# Altium integrated library TI Power Management PCMCIA and USB.IntLib: 328 symbols (part 8 of 14)
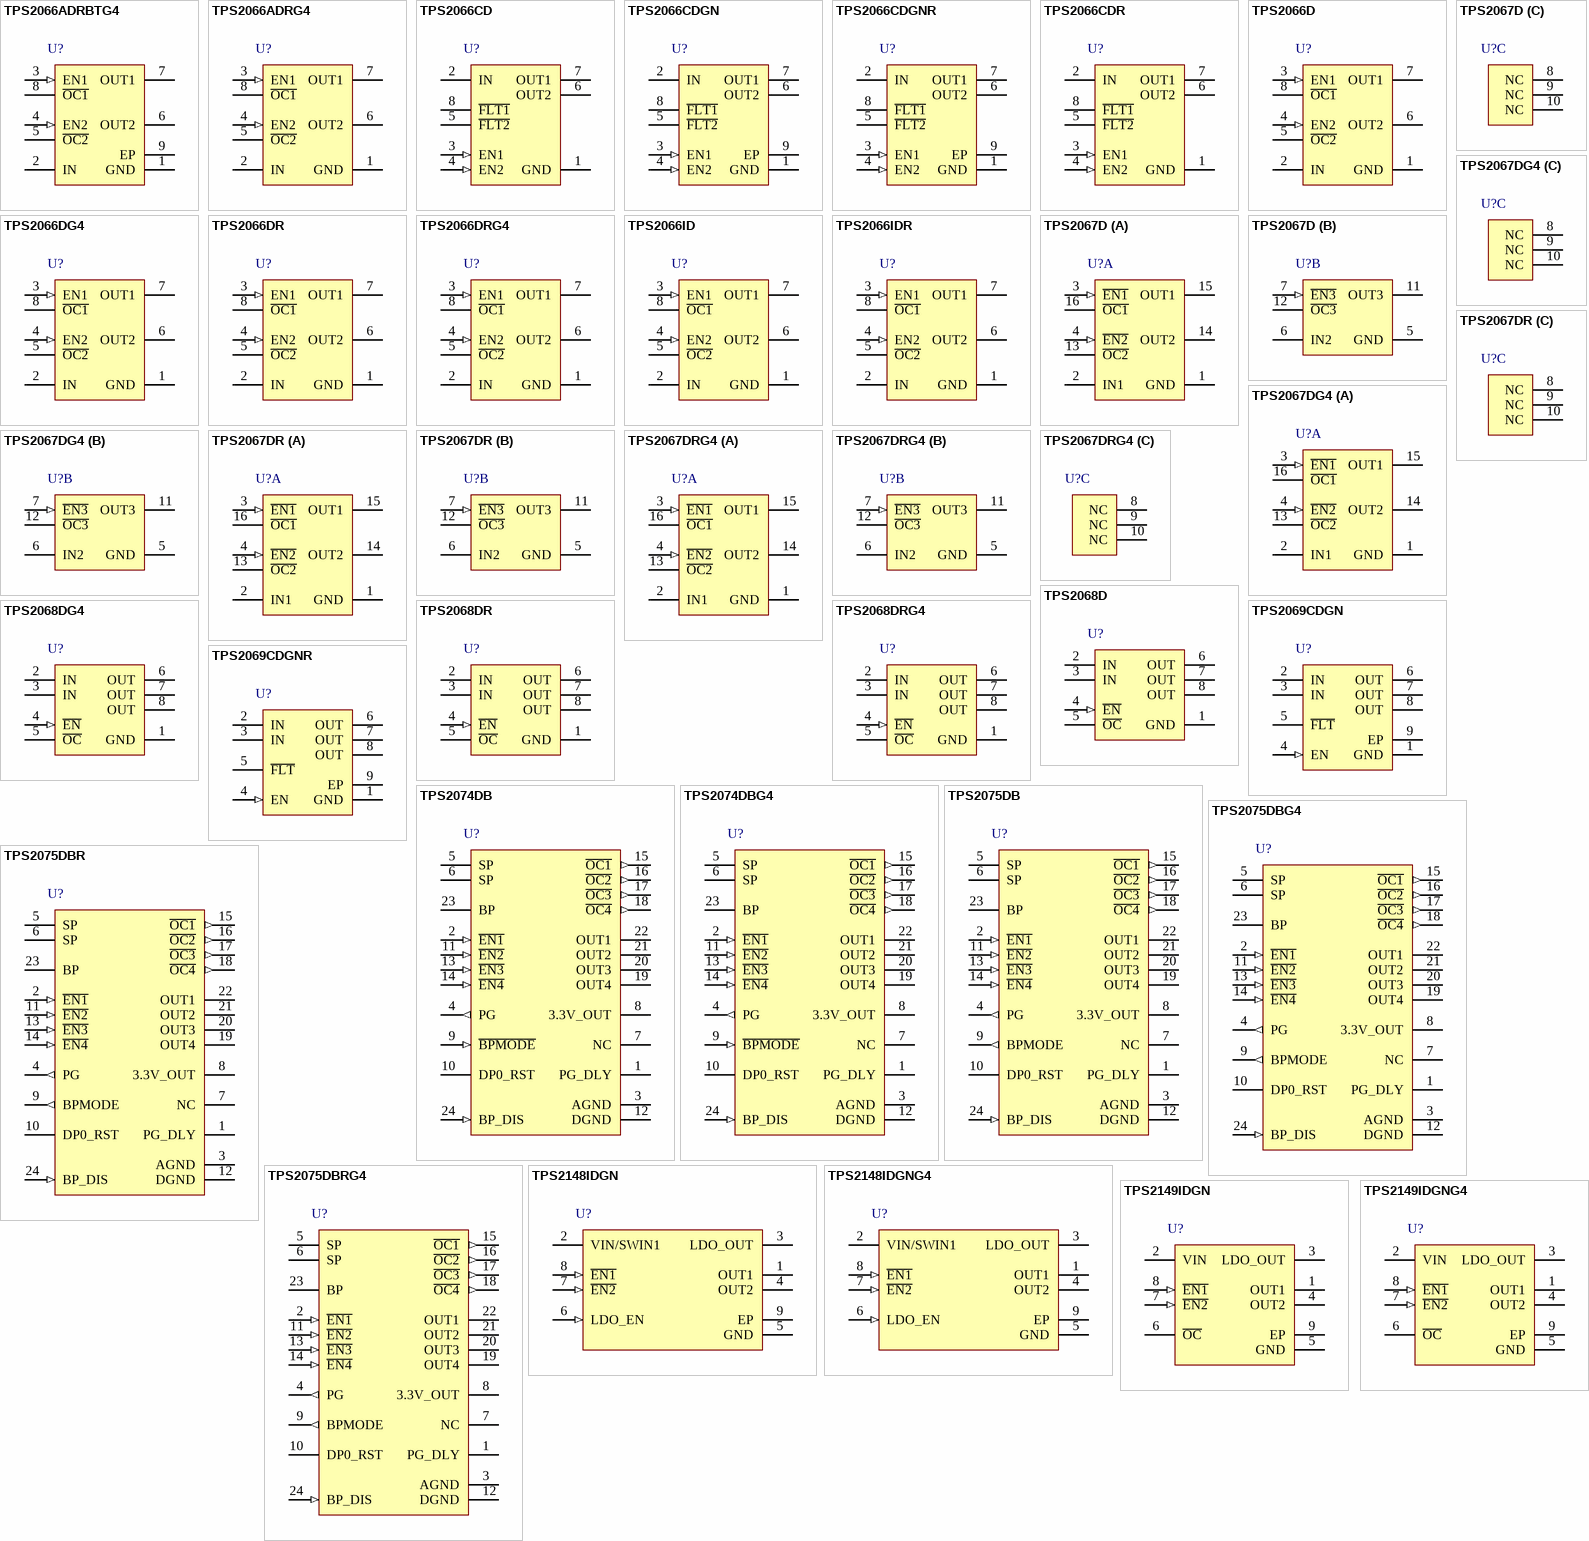
[diagram p17: symbols TPS2066ADRBTG4 to TPS2149IDGNG4]

## TPS2066CDR
designator U?
Dual-Channel, Current-Limited, Power-Distribution Switch, 1.11 to 1.85 A Current Limit, -40 to 85 degC, 8-pin SOIC (D), Green (RoHS & no Sb/Br); Manufacturer: Texas Instruments; PartNumber: TPS2066CDR; Continuous Current(Max)(A): 1; Current Limit Accuracy @ 1A: +/- 25%; Current Limit Topology: Constant-Current; Enable: Active High; Number of Switches: 2; Rating: Catalog; rDS(on) per FET(Typ)(mOhms): 70; Vin(Max)(V): 5.5; Vin(Min)(V): 4.5; DatasheetVersion: SLVSAX6E; PackageVersion: revM, Jun-2011; PackageReference: D8; PackageDescription: 8-Pin Plastic Small Outline Integrated Circuit, 4.9 x 3.9 mm, Pitch 1.27 mm Pitch; Supplier 1: Digi-Key; Supplier Part Number 1: TPS2066CDR-ND; Supplier 2: Newark; Supplier Part Number 2: 27W9720; Supplier 3: Mouser; Supplier Part Number 3: 595-TPS2066CDR; Current Limit(A): 1.11 to 1.85; Eco-Plan: Green (RoHS & no Sb/Br); Mounting Technology: Surface Mount; Code_JEDEC: MS-012AA; ComponentLink1Description: Datasheet; ComponentLink1URL: http://www.ti.com/general/docs/lit/getliterature.tsp?genericPartNumber=TPS2066C&fileType=pdf
footprint D8_N (SOIC, 8-Leads, Body 4.9x3.9mm, Pitch 1.27mm, IPC Medium Density)
footprint D8_L (SOIC, 8-Leads, Body 4.9x3.9mm, Pitch 1.27mm, IPC High Density)
footprint D8_M (SOIC, 8-Leads, Body 4.9x3.9mm, Pitch 1.27mm, IPC Low Density)
pins: 1 GND (power) "Ground connection", 2 IN (power) "Input voltage and power-switch drain; connect a 0.1 uF or greater ceramic capacitor from IN to GND close to the IC", 3 EN1 (in) "Enable input channel 1, logic high turns on power switch", 4 EN2 (in) "Enable input channel 2, logic high turns on power switch", 5 ~{FLT2} (hiz) "Active-low open-drain output, asserted during overcurrent, or overtemperature conditions on channel 2", 6 OUT2 (power) "Power-switch output channel 2, connected to load", 7 OUT1 (power) "Power-switch output channel 1, connected to load", 8 ~{FLT1} (hiz) "Active-low open-drain output, asserted during overcurrent, or overtemperature conditions on channel 1"

## TPS2066D
designator U?
Dual 1 A Current-Limited, Power-Distribution Switch, 1.5 A Current Limit, -40 to 85 degC, 8-pin SOIC (D), Green (RoHS & no Sb/Br); Manufacturer: Texas Instruments; PartNumber: TPS2066D; Continuous Current(Max)(A): 1; Current Limit(A): 1.5; Enable: Active High; NEMKO: TRUE; Number of Switches: 2; Rating: Catalog; rDS(on) per FET(Typ)(mOhms): 70; Vin(Max)(V): 5.5; Vin(Min)(V): 2.7; DatasheetVersion: SLVS490I; PackageVersion: revM, Jun-2011; PackageReference: D8; PackageDescription: 8-Pin Plastic Small Outline Integrated Circuit, 4.9 x 3.9 mm, Pitch 1.27 mm Pitch; Supplier 1: Digi-Key; Supplier Part Number 1: 296-18934-5-ND; Supplier 2: Farnell; Supplier Part Number 2: 1560654; Supplier 3: Newark; Supplier Part Number 3: 90H4837; Supplier 4: Mouser; Supplier Part Number 4: 595-TPS2066D; Eco-Plan: Green (RoHS & no Sb/Br); UL Listed: TRUE; Mounting Technology: Surface Mount; Code_JEDEC: MS-012AA; ComponentLink1Description: Datasheet; ComponentLink1URL: http://www.ti.com/general/docs/lit/getliterature.tsp?genericPartNumber=TPS2066&fileType=pdf
footprint D8_N (SOIC, 8-Leads, Body 4.9x3.9mm, Pitch 1.27mm, IPC Medium Density)
footprint D8_L (SOIC, 8-Leads, Body 4.9x3.9mm, Pitch 1.27mm, IPC High Density)
footprint D8_M (SOIC, 8-Leads, Body 4.9x3.9mm, Pitch 1.27mm, IPC Low Density)
pins: 1 GND (power) "Ground", 2 IN (power) "Input voltage", 3 EN1 (in) "Enable input, logic low turns on power switch IN-OUT1", 4 EN2 (in) "Enable input, logic low turns on power switch IN-OUT2", 5 ~{OC2} (oc) "Overcurrent, open-drain output, active low, IN-OUT2", 6 OUT2 (power) "Power-switch output, IN-OUT2", 7 OUT1 (power) "Power-switch output, IN-OUT1", 8 ~{OC1} (oc) "Overcurrent, open-drain output, active low, IN-OUT1"

## TPS2066DG4
designator U?
Dual 1 A Current-Limited, Power-Distribution Switch, 1.5 A Current Limit, -40 to 85 degC, 8-pin SOIC (D), Green (RoHS & no Sb/Br); Manufacturer: Texas Instruments; PartNumber: TPS2066DG4; Continuous Current(Max)(A): 1; Current Limit(A): 1.5; Enable: Active High; NEMKO: TRUE; Number of Switches: 2; Rating: Catalog; rDS(on) per FET(Typ)(mOhms): 70; Vin(Max)(V): 5.5; Vin(Min)(V): 2.7; DatasheetVersion: SLVS490I; PackageVersion: revM, Jun-2011; PackageReference: D8; PackageDescription: 8-Pin Plastic Small Outline Integrated Circuit, 4.9 x 3.9 mm, Pitch 1.27 mm Pitch; Supplier 1: Digi-Key; Supplier Part Number 1: TPS2066DG4-ND; Supplier 2: Newark; Supplier Part Number 2: 14M2489; Supplier 3: Mouser; Supplier Part Number 3: 595-TPS2066DG4; Eco-Plan: Green (RoHS & no Sb/Br); UL Listed: TRUE; Mounting Technology: Surface Mount; Code_JEDEC: MS-012AA; ComponentLink1Description: Datasheet; ComponentLink1URL: http://www.ti.com/general/docs/lit/getliterature.tsp?genericPartNumber=TPS2066&fileType=pdf
footprint D8_N (SOIC, 8-Leads, Body 4.9x3.9mm, Pitch 1.27mm, IPC Medium Density)
footprint D8_L (SOIC, 8-Leads, Body 4.9x3.9mm, Pitch 1.27mm, IPC High Density)
footprint D8_M (SOIC, 8-Leads, Body 4.9x3.9mm, Pitch 1.27mm, IPC Low Density)
pins: 1 GND (power) "Ground", 2 IN (power) "Input voltage", 3 EN1 (in) "Enable input, logic low turns on power switch IN-OUT1", 4 EN2 (in) "Enable input, logic low turns on power switch IN-OUT2", 5 ~{OC2} (oc) "Overcurrent, open-drain output, active low, IN-OUT2", 6 OUT2 (power) "Power-switch output, IN-OUT2", 7 OUT1 (power) "Power-switch output, IN-OUT1", 8 ~{OC1} (oc) "Overcurrent, open-drain output, active low, IN-OUT1"

## TPS2066DR
designator U?
Dual 1 A Current-Limited, Power-Distribution Switch, 1.5 A Current Limit, -40 to 85 degC, 8-pin SOIC (D), Green (RoHS & no Sb/Br); Manufacturer: Texas Instruments; PartNumber: TPS2066DR; Continuous Current(Max)(A): 1; Current Limit(A): 1.5; Enable: Active High; NEMKO: TRUE; Number of Switches: 2; Rating: Catalog; rDS(on) per FET(Typ)(mOhms): 70; Vin(Max)(V): 5.5; Vin(Min)(V): 2.7; DatasheetVersion: SLVS490I; PackageVersion: revM, Jun-2011; PackageReference: D8; PackageDescription: 8-Pin Plastic Small Outline Integrated Circuit, 4.9 x 3.9 mm, Pitch 1.27 mm Pitch; Supplier 1: Digi-Key; Supplier Part Number 1: 296-28004-2-ND; Supplier 2: Digi-Key; Supplier Part Number 2: 296-28004-1-ND; Supplier 3: Digi-Key; Supplier Part Number 3: 296-28004-6-ND; Supplier 4: Newark; Supplier Part Number 4: 90H4838; Supplier 5: Mouser; Supplier Part Number 5: 595-TPS2066DR; Eco-Plan: Green (RoHS & no Sb/Br); UL Listed: TRUE; Mounting Technology: Surface Mount; Code_JEDEC: MS-012AA; ComponentLink1Description: Datasheet; ComponentLink1URL: http://www.ti.com/general/docs/lit/getliterature.tsp?genericPartNumber=TPS2066&fileType=pdf
footprint D8_N (SOIC, 8-Leads, Body 4.9x3.9mm, Pitch 1.27mm, IPC Medium Density)
footprint D8_L (SOIC, 8-Leads, Body 4.9x3.9mm, Pitch 1.27mm, IPC High Density)
footprint D8_M (SOIC, 8-Leads, Body 4.9x3.9mm, Pitch 1.27mm, IPC Low Density)
pins: 1 GND (power) "Ground", 2 IN (power) "Input voltage", 3 EN1 (in) "Enable input, logic low turns on power switch IN-OUT1", 4 EN2 (in) "Enable input, logic low turns on power switch IN-OUT2", 5 ~{OC2} (oc) "Overcurrent, open-drain output, active low, IN-OUT2", 6 OUT2 (power) "Power-switch output, IN-OUT2", 7 OUT1 (power) "Power-switch output, IN-OUT1", 8 ~{OC1} (oc) "Overcurrent, open-drain output, active low, IN-OUT1"

## TPS2066DRG4
designator U?
Dual 1 A Current-Limited, Power-Distribution Switch, 1.5 A Current Limit, -40 to 85 degC, 8-pin SOIC (D), Green (RoHS & no Sb/Br); Manufacturer: Texas Instruments; PartNumber: TPS2066DRG4; Continuous Current(Max)(A): 1; Current Limit(A): 1.5; Enable: Active High; NEMKO: TRUE; Number of Switches: 2; Rating: Catalog; rDS(on) per FET(Typ)(mOhms): 70; Vin(Max)(V): 5.5; Vin(Min)(V): 2.7; DatasheetVersion: SLVS490I; PackageVersion: revM, Jun-2011; PackageReference: D8; PackageDescription: 8-Pin Plastic Small Outline Integrated Circuit, 4.9 x 3.9 mm, Pitch 1.27 mm Pitch; Supplier 1: Digi-Key; Supplier Part Number 1: TPS2066DRG4-ND; Supplier 2: Newark; Supplier Part Number 2: 54K1551; Supplier 3: Mouser; Supplier Part Number 3: 595-TPS2066DRG4; Eco-Plan: Green (RoHS & no Sb/Br); UL Listed: TRUE; Mounting Technology: Surface Mount; Code_JEDEC: MS-012AA; ComponentLink1Description: Datasheet; ComponentLink1URL: http://www.ti.com/general/docs/lit/getliterature.tsp?genericPartNumber=TPS2066&fileType=pdf
footprint D8_N (SOIC, 8-Leads, Body 4.9x3.9mm, Pitch 1.27mm, IPC Medium Density)
footprint D8_L (SOIC, 8-Leads, Body 4.9x3.9mm, Pitch 1.27mm, IPC High Density)
footprint D8_M (SOIC, 8-Leads, Body 4.9x3.9mm, Pitch 1.27mm, IPC Low Density)
pins: 1 GND (power) "Ground", 2 IN (power) "Input voltage", 3 EN1 (in) "Enable input, logic low turns on power switch IN-OUT1", 4 EN2 (in) "Enable input, logic low turns on power switch IN-OUT2", 5 ~{OC2} (oc) "Overcurrent, open-drain output, active low, IN-OUT2", 6 OUT2 (power) "Power-switch output, IN-OUT2", 7 OUT1 (power) "Power-switch output, IN-OUT1", 8 ~{OC1} (oc) "Overcurrent, open-drain output, active low, IN-OUT1"

## TPS2066ID
designator U?
Dual 1 A Current-Limited, Power-Distribution Switch, 1.5 A Current Limit, -40 to 85 degC, 8-pin SOIC (D); Manufacturer: Texas Instruments; PartNumber: TPS2066ID; Continuous Current(Max)(A): 1; Current Limit(A): 1.5; Eco-Plan: Green (RoHS & no Sb/Br); Enable: Active High; NEMKO: TRUE; Number of Switches: 2; Rating: Catalog; rDS(on) per FET(Typ)(mOhms): 70; Vin(Max)(V): 5.5; Vin(Min)(V): 2.7; DatasheetVersion: SLVS490I; PackageVersion: revM, Jun-2011; PackageReference: D8; PackageDescription: 8-Pin Plastic Small Outline Integrated Circuit, 4.9 x 3.9 mm, Pitch 1.27 mm Pitch; Supplier 1: Mouser; Supplier Part Number 1: N/A; UL Listed: TRUE; Mounting Technology: Surface Mount; Code_JEDEC: MS-012AA; ComponentLink1Description: Datasheet; ComponentLink1URL: http://www.ti.com/general/docs/lit/getliterature.tsp?genericPartNumber=TPS2066&fileType=pdf
footprint D8_N (SOIC, 8-Leads, Body 4.9x3.9mm, Pitch 1.27mm, IPC Medium Density)
footprint D8_L (SOIC, 8-Leads, Body 4.9x3.9mm, Pitch 1.27mm, IPC High Density)
footprint D8_M (SOIC, 8-Leads, Body 4.9x3.9mm, Pitch 1.27mm, IPC Low Density)
pins: 1 GND (power) "Ground", 2 IN (power) "Input voltage", 3 EN1 (in) "Enable input, logic low turns on power switch IN-OUT1", 4 EN2 (in) "Enable input, logic low turns on power switch IN-OUT2", 5 ~{OC2} (oc) "Overcurrent, open-drain output, active low, IN-OUT2", 6 OUT2 (power) "Power-switch output, IN-OUT2", 7 OUT1 (power) "Power-switch output, IN-OUT1", 8 ~{OC1} (oc) "Overcurrent, open-drain output, active low, IN-OUT1"

## TPS2066IDR
designator U?
Dual 1 A Current-Limited, Power-Distribution Switch, 1.5 A Current Limit, -40 to 85 degC, 8-pin SOIC (D); Manufacturer: Texas Instruments; PartNumber: TPS2066IDR; Continuous Current(Max)(A): 1; Current Limit(A): 1.5; Eco-Plan: Green (RoHS & no Sb/Br); Enable: Active High; NEMKO: TRUE; Number of Switches: 2; Rating: Catalog; rDS(on) per FET(Typ)(mOhms): 70; Vin(Max)(V): 5.5; Vin(Min)(V): 2.7; DatasheetVersion: SLVS490I; PackageVersion: revM, Jun-2011; PackageReference: D8; PackageDescription: 8-Pin Plastic Small Outline Integrated Circuit, 4.9 x 3.9 mm, Pitch 1.27 mm Pitch; Supplier 1: Mouser; Supplier Part Number 1: N/A; UL Listed: TRUE; Mounting Technology: Surface Mount; Code_JEDEC: MS-012AA; ComponentLink1Description: Datasheet; ComponentLink1URL: http://www.ti.com/general/docs/lit/getliterature.tsp?genericPartNumber=TPS2066&fileType=pdf
footprint D8_N (SOIC, 8-Leads, Body 4.9x3.9mm, Pitch 1.27mm, IPC Medium Density)
footprint D8_L (SOIC, 8-Leads, Body 4.9x3.9mm, Pitch 1.27mm, IPC High Density)
footprint D8_M (SOIC, 8-Leads, Body 4.9x3.9mm, Pitch 1.27mm, IPC Low Density)
pins: 1 GND (power) "Ground", 2 IN (power) "Input voltage", 3 EN1 (in) "Enable input, logic low turns on power switch IN-OUT1", 4 EN2 (in) "Enable input, logic low turns on power switch IN-OUT2", 5 ~{OC2} (oc) "Overcurrent, open-drain output, active low, IN-OUT2", 6 OUT2 (power) "Power-switch output, IN-OUT2", 7 OUT1 (power) "Power-switch output, IN-OUT1", 8 ~{OC1} (oc) "Overcurrent, open-drain output, active low, IN-OUT1"

## TPS2067D
designator U?
Triple 1 A Current-Limited, Power-Distribution Switch, 1.5 A Current Limit, -40 to 85 degC, 16-pin SOIC (D), Green (RoHS & no Sb/Br); Manufacturer: Texas Instruments; PartNumber: TPS2067D; Continuous Current(Max)(A): 1; Current Limit(A): 1.5; Enable: Active High; NEMKO: TRUE; Number of Switches: 3; Rating: Catalog; rDS(on) per FET(Typ)(mOhms): 70; Vin(Max)(V): 5.5; Vin(Min)(V): 2.7; DatasheetVersion: SLVS490I; PackageVersion: revM, Jun-2011; PackageReference: D16; PackageDescription: 16-Pin Plastic Small Outline Integrated Circuit, 9.9 x 3.9 mm, Pitch 1.27 mm Pitch; Supplier 1: Digi-Key; Supplier Part Number 1: 296-34593-5-ND; Supplier 2: Newark; Supplier Part Number 2: 44J2510; Supplier 3: Mouser; Supplier Part Number 3: 595-TPS2067D; Eco-Plan: Green (RoHS & no Sb/Br); UL Listed: TRUE; Mounting Technology: Surface Mount; Code_JEDEC: MS-012AC; ComponentLink1Description: Datasheet; ComponentLink1URL: http://www.ti.com/general/docs/lit/getliterature.tsp?genericPartNumber=TPS2067&fileType=pdf
footprint D16_N (SOIC, 16-Leads, Body 9.9x3.9mm, Pitch 1.27mm, IPC Medium Density)
footprint D16_L (SOIC, 16-Leads, Body 9.9x3.9mm, Pitch 1.27mm, IPC High Density)
footprint D16_M (SOIC, 16-Leads, Body 9.9x3.9mm, Pitch 1.27mm, IPC Low Density)
part A pins: 1 GND (power) "Ground", 2 IN1 (power) "Input voltage for OUT1 and OUT2", 3 ~{EN1} (in) "Enable input, logic low turns on power switch IN1-OUT1", 4 ~{EN2} (in) "Enable input, logic low turns on power switch IN1-OUT2", 13 ~{OC2} (oc) "Overcurrent, open-drain output, active low, IN1-OUT2", 14 OUT2 (power) "Power-switch output, IN1-OUT2", 15 OUT1 (power) "Power-switch output, IN1-OUT1", 16 ~{OC1} (oc) "Overcurrent, open-drain output, active low, IN1-OUT1"
part B pins: 5 GND (power) "Ground", 6 IN2 (power) "Input voltage for OUT3", 7 ~{EN3} (in) "Enable input, logic high turns on power switch IN2-OUT3", 11 OUT3 (power) "Power-switch output, IN2-OUT3", 12 ~{OC3} (oc) "Overcurrent, open-drain output, active low, IN2-OUT3"
part C pins: 8 NC "No connection", 9 NC "No connection", 10 NC "No connection"

## TPS2067DG4
designator U?
Triple 1 A Current-Limited, Power-Distribution Switch, 1.5 A Current Limit, -40 to 85 degC, 16-pin SOIC (D), Green (RoHS & no Sb/Br); Manufacturer: Texas Instruments; PartNumber: TPS2067DG4; Continuous Current(Max)(A): 1; Current Limit(A): 1.5; Enable: Active High; NEMKO: TRUE; Number of Switches: 3; Rating: Catalog; rDS(on) per FET(Typ)(mOhms): 70; Vin(Max)(V): 5.5; Vin(Min)(V): 2.7; DatasheetVersion: SLVS490I; PackageVersion: revM, Jun-2011; PackageReference: D16; PackageDescription: 16-Pin Plastic Small Outline Integrated Circuit, 9.9 x 3.9 mm, Pitch 1.27 mm Pitch; Supplier 1: Digi-Key; Supplier Part Number 1: TPS2067DG4-ND; Supplier 2: Newark; Supplier Part Number 2: 67K8614; Supplier 3: Mouser; Supplier Part Number 3: 595-TPS2067DG4; Eco-Plan: Green (RoHS & no Sb/Br); UL Listed: TRUE; Mounting Technology: Surface Mount; Code_JEDEC: MS-012AC; ComponentLink1Description: Datasheet; ComponentLink1URL: http://www.ti.com/general/docs/lit/getliterature.tsp?genericPartNumber=TPS2067&fileType=pdf
footprint D16_N (SOIC, 16-Leads, Body 9.9x3.9mm, Pitch 1.27mm, IPC Medium Density)
footprint D16_L (SOIC, 16-Leads, Body 9.9x3.9mm, Pitch 1.27mm, IPC High Density)
footprint D16_M (SOIC, 16-Leads, Body 9.9x3.9mm, Pitch 1.27mm, IPC Low Density)
part A pins: 1 GND (power) "Ground", 2 IN1 (power) "Input voltage for OUT1 and OUT2", 3 ~{EN1} (in) "Enable input, logic low turns on power switch IN1-OUT1", 4 ~{EN2} (in) "Enable input, logic low turns on power switch IN1-OUT2", 13 ~{OC2} (oc) "Overcurrent, open-drain output, active low, IN1-OUT2", 14 OUT2 (power) "Power-switch output, IN1-OUT2", 15 OUT1 (power) "Power-switch output, IN1-OUT1", 16 ~{OC1} (oc) "Overcurrent, open-drain output, active low, IN1-OUT1"
part B pins: 5 GND (power) "Ground", 6 IN2 (power) "Input voltage for OUT3", 7 ~{EN3} (in) "Enable input, logic high turns on power switch IN2-OUT3", 11 OUT3 (power) "Power-switch output, IN2-OUT3", 12 ~{OC3} (oc) "Overcurrent, open-drain output, active low, IN2-OUT3"
part C pins: 8 NC "No connection", 9 NC "No connection", 10 NC "No connection"

## TPS2067DR
designator U?
Triple 1 A Current-Limited, Power-Distribution Switch, 1.5 A Current Limit, -40 to 85 degC, 16-pin SOIC (D), Green (RoHS & no Sb/Br); Manufacturer: Texas Instruments; PartNumber: TPS2067DR; Continuous Current(Max)(A): 1; Current Limit(A): 1.5; Enable: Active High; NEMKO: TRUE; Number of Switches: 3; Rating: Catalog; rDS(on) per FET(Typ)(mOhms): 70; Vin(Max)(V): 5.5; Vin(Min)(V): 2.7; DatasheetVersion: SLVS490I; PackageVersion: revM, Jun-2011; PackageReference: D16; PackageDescription: 16-Pin Plastic Small Outline Integrated Circuit, 9.9 x 3.9 mm, Pitch 1.27 mm Pitch; Supplier 1: Digi-Key; Supplier Part Number 1: 296-17387-2-ND; Supplier 2: Digi-Key; Supplier Part Number 2: 296-17387-1-ND; Supplier 3: Digi-Key; Supplier Part Number 3: 296-17387-6-ND; Supplier 4: Newark; Supplier Part Number 4: 44J2511; Supplier 5: Mouser; Supplier Part Number 5: 595-TPS2067DR; Eco-Plan: Green (RoHS & no Sb/Br); UL Listed: TRUE; Mounting Technology: Surface Mount; Code_JEDEC: MS-012AC; ComponentLink1Description: Datasheet; ComponentLink1URL: http://www.ti.com/general/docs/lit/getliterature.tsp?genericPartNumber=TPS2067&fileType=pdf
footprint D16_N (SOIC, 16-Leads, Body 9.9x3.9mm, Pitch 1.27mm, IPC Medium Density)
footprint D16_L (SOIC, 16-Leads, Body 9.9x3.9mm, Pitch 1.27mm, IPC High Density)
footprint D16_M (SOIC, 16-Leads, Body 9.9x3.9mm, Pitch 1.27mm, IPC Low Density)
part A pins: 1 GND (power) "Ground", 2 IN1 (power) "Input voltage for OUT1 and OUT2", 3 ~{EN1} (in) "Enable input, logic low turns on power switch IN1-OUT1", 4 ~{EN2} (in) "Enable input, logic low turns on power switch IN1-OUT2", 13 ~{OC2} (oc) "Overcurrent, open-drain output, active low, IN1-OUT2", 14 OUT2 (power) "Power-switch output, IN1-OUT2", 15 OUT1 (power) "Power-switch output, IN1-OUT1", 16 ~{OC1} (oc) "Overcurrent, open-drain output, active low, IN1-OUT1"
part B pins: 5 GND (power) "Ground", 6 IN2 (power) "Input voltage for OUT3", 7 ~{EN3} (in) "Enable input, logic high turns on power switch IN2-OUT3", 11 OUT3 (power) "Power-switch output, IN2-OUT3", 12 ~{OC3} (oc) "Overcurrent, open-drain output, active low, IN2-OUT3"
part C pins: 8 NC "No connection", 9 NC "No connection", 10 NC "No connection"

## TPS2067DRG4
designator U?
Triple 1 A Current-Limited, Power-Distribution Switch, 1.5 A Current Limit, -40 to 85 degC, 16-pin SOIC (D), Green (RoHS & no Sb/Br); Manufacturer: Texas Instruments; PartNumber: TPS2067DRG4; Continuous Current(Max)(A): 1; Current Limit(A): 1.5; Enable: Active High; NEMKO: TRUE; Number of Switches: 3; Rating: Catalog; rDS(on) per FET(Typ)(mOhms): 70; Vin(Max)(V): 5.5; Vin(Min)(V): 2.7; DatasheetVersion: SLVS490I; PackageVersion: revM, Jun-2011; PackageReference: D16; PackageDescription: 16-Pin Plastic Small Outline Integrated Circuit, 9.9 x 3.9 mm, Pitch 1.27 mm Pitch; Supplier 1: Digi-Key; Supplier Part Number 1: TPS2067DRG4-ND; Supplier 2: Newark; Supplier Part Number 2: 33K7546; Supplier 3: Mouser; Supplier Part Number 3: 595-TPS2067DRG4; Eco-Plan: Green (RoHS & no Sb/Br); UL Listed: TRUE; Mounting Technology: Surface Mount; Code_JEDEC: MS-012AC; ComponentLink1Description: Datasheet; ComponentLink1URL: http://www.ti.com/general/docs/lit/getliterature.tsp?genericPartNumber=TPS2067&fileType=pdf
footprint D16_N (SOIC, 16-Leads, Body 9.9x3.9mm, Pitch 1.27mm, IPC Medium Density)
footprint D16_L (SOIC, 16-Leads, Body 9.9x3.9mm, Pitch 1.27mm, IPC High Density)
footprint D16_M (SOIC, 16-Leads, Body 9.9x3.9mm, Pitch 1.27mm, IPC Low Density)
part A pins: 1 GND (power) "Ground", 2 IN1 (power) "Input voltage for OUT1 and OUT2", 3 ~{EN1} (in) "Enable input, logic low turns on power switch IN1-OUT1", 4 ~{EN2} (in) "Enable input, logic low turns on power switch IN1-OUT2", 13 ~{OC2} (oc) "Overcurrent, open-drain output, active low, IN1-OUT2", 14 OUT2 (power) "Power-switch output, IN1-OUT2", 15 OUT1 (power) "Power-switch output, IN1-OUT1", 16 ~{OC1} (oc) "Overcurrent, open-drain output, active low, IN1-OUT1"
part B pins: 5 GND (power) "Ground", 6 IN2 (power) "Input voltage for OUT3", 7 ~{EN3} (in) "Enable input, logic high turns on power switch IN2-OUT3", 11 OUT3 (power) "Power-switch output, IN2-OUT3", 12 ~{OC3} (oc) "Overcurrent, open-drain output, active low, IN2-OUT3"
part C pins: 8 NC "No connection", 9 NC "No connection", 10 NC "No connection"

## TPS2068D
designator U?
Current-Limited, Power-Distribution Switch, 2.1 A Current Limit, 0 to 70 degC, 8-pin SOIC (D), Green (RoHS & no Sb/Br); Manufacturer: Texas Instruments; PartNumber: TPS2068D; Continuous Current(Max)(A): 1.5; Current Limit(A): 2.1; Enable: Active Low; Number of Switches: 1; Rating: Catalog; rDS(on) per FET(Typ)(mOhms): 70; UL Listed: TRUE; Vin(Max)(V): 5.5; Vin(Min)(V): 2.7; DatasheetVersion: SLVS553K; PackageVersion: revM, Jun-2011; PackageReference: D8; PackageDescription: 8-Pin Plastic Small Outline Integrated Circuit, 4.9 x 3.9 mm, Pitch 1.27 mm Pitch; Supplier 1: Digi-Key; Supplier Part Number 1: 296-22977-5-ND; Supplier 2: Farnell; Supplier Part Number 2: 1755312; Supplier 3: Newark; Supplier Part Number 3: 50R6891; Supplier 4: Newark; Supplier Part Number 4: 72M4760; Supplier 5: Mouser; Supplier Part Number 5: 595-TPS2068D; Eco-Plan: Green (RoHS & no Sb/Br); Mounting Technology: Surface Mount; Code_JEDEC: MS-012AA; ComponentLink1Description: Datasheet; ComponentLink1URL: http://www.ti.com/general/docs/lit/getliterature.tsp?genericPartNumber=TPS2068&fileType=pdf
footprint D8_N (SOIC, 8-Leads, Body 4.9x3.9mm, Pitch 1.27mm, IPC Medium Density)
footprint D8_L (SOIC, 8-Leads, Body 4.9x3.9mm, Pitch 1.27mm, IPC High Density)
footprint D8_M (SOIC, 8-Leads, Body 4.9x3.9mm, Pitch 1.27mm, IPC Low Density)
pins: 1 GND (power) "Ground", 2 IN (power) "Input voltage", 3 IN (power) "Input voltage", 4 ~{EN} (in) "Enable input, logic low turns on power switch", 5 ~{OC} (oc) "Overcurrent, open-drain output, active-low", 6 OUT (power) "Power-switch output", 7 OUT (power) "Power-switch output", 8 OUT (power) "Power-switch output"

## TPS2068DG4
designator U?
Current-Limited, Power-Distribution Switch, 2.1 A Current Limit, 0 to 70 degC, 8-pin SOIC (D), Green (RoHS & no Sb/Br); Manufacturer: Texas Instruments; PartNumber: TPS2068DG4; Continuous Current(Max)(A): 1.5; Current Limit(A): 2.1; Enable: Active Low; Number of Switches: 1; Rating: Catalog; rDS(on) per FET(Typ)(mOhms): 70; UL Listed: TRUE; Vin(Max)(V): 5.5; Vin(Min)(V): 2.7; DatasheetVersion: SLVS553K; PackageVersion: revM, Jun-2011; PackageReference: D8; PackageDescription: 8-Pin Plastic Small Outline Integrated Circuit, 4.9 x 3.9 mm, Pitch 1.27 mm Pitch; Supplier 1: Digi-Key; Supplier Part Number 1: TPS2068DG4-ND; Supplier 2: Mouser; Supplier Part Number 2: 595-TPS2068DG4; Eco-Plan: Green (RoHS & no Sb/Br); Mounting Technology: Surface Mount; Code_JEDEC: MS-012AA; ComponentLink1Description: Datasheet; ComponentLink1URL: http://www.ti.com/general/docs/lit/getliterature.tsp?genericPartNumber=TPS2068&fileType=pdf
footprint D8_N (SOIC, 8-Leads, Body 4.9x3.9mm, Pitch 1.27mm, IPC Medium Density)
footprint D8_L (SOIC, 8-Leads, Body 4.9x3.9mm, Pitch 1.27mm, IPC High Density)
footprint D8_M (SOIC, 8-Leads, Body 4.9x3.9mm, Pitch 1.27mm, IPC Low Density)
pins: 1 GND (power) "Ground", 2 IN (power) "Input voltage", 3 IN (power) "Input voltage", 4 ~{EN} (in) "Enable input, logic low turns on power switch", 5 ~{OC} (oc) "Overcurrent, open-drain output, active-low", 6 OUT (power) "Power-switch output", 7 OUT (power) "Power-switch output", 8 OUT (power) "Power-switch output"

## TPS2068DR
designator U?
Current-Limited, Power-Distribution Switch, 2.1 A Current Limit, 0 to 70 degC, 8-pin SOIC (D), Green (RoHS & no Sb/Br); Manufacturer: Texas Instruments; PartNumber: TPS2068DR; Continuous Current(Max)(A): 1.5; Current Limit(A): 2.1; Enable: Active Low; Number of Switches: 1; Rating: Catalog; rDS(on) per FET(Typ)(mOhms): 70; UL Listed: TRUE; Vin(Max)(V): 5.5; Vin(Min)(V): 2.7; DatasheetVersion: SLVS553K; PackageVersion: revM, Jun-2011; PackageReference: D8; PackageDescription: 8-Pin Plastic Small Outline Integrated Circuit, 4.9 x 3.9 mm, Pitch 1.27 mm Pitch; Supplier 1: Digi-Key; Supplier Part Number 1: TPS2068DR-ND; Supplier 2: Newark; Supplier Part Number 2: 72M4761; Supplier 3: Mouser; Supplier Part Number 3: 595-TPS2068DR; Eco-Plan: Green (RoHS & no Sb/Br); Mounting Technology: Surface Mount; Code_JEDEC: MS-012AA; ComponentLink1Description: Datasheet; ComponentLink1URL: http://www.ti.com/general/docs/lit/getliterature.tsp?genericPartNumber=TPS2068&fileType=pdf
footprint D8_N (SOIC, 8-Leads, Body 4.9x3.9mm, Pitch 1.27mm, IPC Medium Density)
footprint D8_L (SOIC, 8-Leads, Body 4.9x3.9mm, Pitch 1.27mm, IPC High Density)
footprint D8_M (SOIC, 8-Leads, Body 4.9x3.9mm, Pitch 1.27mm, IPC Low Density)
pins: 1 GND (power) "Ground", 2 IN (power) "Input voltage", 3 IN (power) "Input voltage", 4 ~{EN} (in) "Enable input, logic low turns on power switch", 5 ~{OC} (oc) "Overcurrent, open-drain output, active-low", 6 OUT (power) "Power-switch output", 7 OUT (power) "Power-switch output", 8 OUT (power) "Power-switch output"

## TPS2068DRG4
designator U?
Current-Limited, Power-Distribution Switch, 2.1 A Current Limit, 0 to 70 degC, 8-pin SOIC (D), Green (RoHS & no Sb/Br); Manufacturer: Texas Instruments; PartNumber: TPS2068DRG4; Continuous Current(Max)(A): 1.5; Current Limit(A): 2.1; Enable: Active Low; Number of Switches: 1; Rating: Catalog; rDS(on) per FET(Typ)(mOhms): 70; UL Listed: TRUE; Vin(Max)(V): 5.5; Vin(Min)(V): 2.7; DatasheetVersion: SLVS553K; PackageVersion: revM, Jun-2011; PackageReference: D8; PackageDescription: 8-Pin Plastic Small Outline Integrated Circuit, 4.9 x 3.9 mm, Pitch 1.27 mm Pitch; Supplier 1: Digi-Key; Supplier Part Number 1: TPS2068DRG4-ND; Supplier 2: Mouser; Supplier Part Number 2: 595-TPS2068DRG4; Eco-Plan: Green (RoHS & no Sb/Br); Mounting Technology: Surface Mount; Code_JEDEC: MS-012AA; ComponentLink1Description: Datasheet; ComponentLink1URL: http://www.ti.com/general/docs/lit/getliterature.tsp?genericPartNumber=TPS2068&fileType=pdf
footprint D8_N (SOIC, 8-Leads, Body 4.9x3.9mm, Pitch 1.27mm, IPC Medium Density)
footprint D8_L (SOIC, 8-Leads, Body 4.9x3.9mm, Pitch 1.27mm, IPC High Density)
footprint D8_M (SOIC, 8-Leads, Body 4.9x3.9mm, Pitch 1.27mm, IPC Low Density)
pins: 1 GND (power) "Ground", 2 IN (power) "Input voltage", 3 IN (power) "Input voltage", 4 ~{EN} (in) "Enable input, logic low turns on power switch", 5 ~{OC} (oc) "Overcurrent, open-drain output, active-low", 6 OUT (power) "Power-switch output", 7 OUT (power) "Power-switch output", 8 OUT (power) "Power-switch output"

## TPS2069CDGN
designator U?
Single Channel, Current-Limited USB Power Distribution Switch, 2.15 A Current Limit, -40 to 85 degC, 8-pin MSOP-PowerPAD (DGN), Green (RoHS & no Sb/Br); Manufacturer: Texas Instruments; PartNumber: TPS2069CDGN; Continuous Current(Max)(A): 1.5; Current Limit(A): 2.15; Discharge Function: TRUE; Enable: Active High; Number of Switches: 1; Rating: Catalog; rDS(on) per FET(Typ)(mOhms): 70; Vin(Max)(V): 5.5; Vin(Min)(V): 4.5; DatasheetVersion: SLVSAU6E; PackageVersion: revF, May-2011; PackageReference: DGN8-1760X1425TP; PackageDescription: 8-Pin PowerPAD Plastic Small Outline Package 3 x 3 mm Body ,0.65 mm Pitch, Exposed Pad; Supplier 1: Digi-Key; Supplier Part Number 1: 296-29509-5-ND; Supplier 2: Farnell; Supplier Part Number 2: 2057441; Supplier 3: Newark; Supplier Part Number 3: 64T4207; Supplier 4: Mouser; Supplier Part Number 4: 595-TPS2069CDGN; Eco-Plan: Green (RoHS & no Sb/Br); UL Listed: TRUE; Mounting Technology: Surface Mount; Code_JEDEC: MO-187-AA-T; ComponentLink1Description: Datasheet; ComponentLink1URL: http://www.ti.com/general/docs/lit/getliterature.tsp?genericPartNumber=TPS2069C&fileType=pdf
footprint DGN8-1760X1425TP_N (TSOP, 8-Leads, Body 3x3mm, Pitch 0.65mm, Thermal Pad 1.89x1.57mm, IPC Medium Density)
footprint DGN8-1760X1425TP_L (TSOP, 8-Leads, Body 3x3mm, Pitch 0.65mm, Thermal Pad 1.89x1.57mm, IPC High Density)
footprint DGN8-1760X1425TP_M (TSOP, 8-Leads, Body 3x3mm, Pitch 0.65mm, Thermal Pad 1.89x1.57mm, IPC Low Density)
pins: 1 GND (power) "Ground connection", 2 IN (power) "Input voltage and power-switch drain; connect a 0.1 uF or greater ceramic capacitor from IN to GND close to the IC", 3 IN (power) "Input voltage and power-switch drain; connect a 0.1 uF or greater ceramic capacitor from IN to GND close to the IC", 4 EN (in) "Enable input, logic high turns on power switch", 5 ~{FLT} (hiz) "Active-low open-drain output, asserted during over-current, or over-temperature conditions", 6 OUT (power) "Power-switch output, connect to load", 7 OUT (power) "Power-switch output, connect to load", 8 OUT (power) "Power-switch output, connect to load", 9 EP (power) "Internally connected to GND. Connect PAD to GND plane as a heatsink for the best thermal performance. PAD may be left floating if desired. See POWER DISSIPATION AND JUNCTION TEMPERATURE section for guidance."

## TPS2069CDGNR
designator U?
Single Channel, Current-Limited USB Power Distribution Switch, 2.15 A Current Limit, -40 to 85 degC, 8-pin MSOP-PowerPAD (DGN), Green (RoHS & no Sb/Br); Manufacturer: Texas Instruments; PartNumber: TPS2069CDGNR; Continuous Current(Max)(A): 1.5; Current Limit(A): 2.15; Discharge Function: TRUE; Enable: Active High; Number of Switches: 1; Rating: Catalog; rDS(on) per FET(Typ)(mOhms): 70; Vin(Max)(V): 5.5; Vin(Min)(V): 4.5; DatasheetVersion: SLVSAU6E; PackageVersion: revF, May-2011; PackageReference: DGN8-1760X1425TP; PackageDescription: 8-Pin PowerPAD Plastic Small Outline Package 3 x 3 mm Body ,0.65 mm Pitch, Exposed Pad; Supplier 1: Digi-Key; Supplier Part Number 1: 296-29455-2-ND; Supplier 2: Digi-Key; Supplier Part Number 2: 296-29455-1-ND; Supplier 3: Digi-Key; Supplier Part Number 3: 296-29455-6-ND; Supplier 4: Mouser; Supplier Part Number 4: 595-TPS2069CDGNR; Eco-Plan: Green (RoHS & no Sb/Br); UL Listed: TRUE; Mounting Technology: Surface Mount; Code_JEDEC: MO-187-AA-T; ComponentLink1Description: Datasheet; ComponentLink1URL: http://www.ti.com/general/docs/lit/getliterature.tsp?genericPartNumber=TPS2069C&fileType=pdf
footprint DGN8-1760X1425TP_N (TSOP, 8-Leads, Body 3x3mm, Pitch 0.65mm, Thermal Pad 1.89x1.57mm, IPC Medium Density)
footprint DGN8-1760X1425TP_L (TSOP, 8-Leads, Body 3x3mm, Pitch 0.65mm, Thermal Pad 1.89x1.57mm, IPC High Density)
footprint DGN8-1760X1425TP_M (TSOP, 8-Leads, Body 3x3mm, Pitch 0.65mm, Thermal Pad 1.89x1.57mm, IPC Low Density)
pins: 1 GND (power) "Ground connection", 2 IN (power) "Input voltage and power-switch drain; connect a 0.1 uF or greater ceramic capacitor from IN to GND close to the IC", 3 IN (power) "Input voltage and power-switch drain; connect a 0.1 uF or greater ceramic capacitor from IN to GND close to the IC", 4 EN (in) "Enable input, logic high turns on power switch", 5 ~{FLT} (hiz) "Active-low open-drain output, asserted during over-current, or over-temperature conditions", 6 OUT (power) "Power-switch output, connect to load", 7 OUT (power) "Power-switch output, connect to load", 8 OUT (power) "Power-switch output, connect to load", 9 EP (power) "Internally connected to GND. Connect PAD to GND plane as a heatsink for the best thermal performance. PAD may be left floating if desired. See POWER DISSIPATION AND JUNCTION TEMPERATURE section for guidance."

## TPS2074DB
designator U?
Power Controller for Bus / Self Powered USB Hub with 3.3 V LDO, 8 Pwr Switches, Act-Low BPMode Indicator, 4 Ports, 8 FETs, 100 mA LDO Output Current, -40 to 85 degC, 24-pin SSOP (DB), Green (RoHS & no Sb/Br); Manufacturer: Texas Instruments; PartNumber: TPS2074DB; Hub: TRUE; LDO Output Current(mA): 100; LDO Output Range(V): 3.3; Number of FETs: 8; Ports(Max): 4; rDS(on) per FET, Bus Power(Typ)(mOhms): 500; SubFamily: USB Power Controller; Switch Current Limit, Bus Power(Min)(A): 0.12; Switch Enable: L; Vin(Max)(V): 5.5; Vin(Min)(V): 4.5; DatasheetVersion: SLVS288A; PackageVersion: revE, Dec-2001; PackageReference: DB24; PackageDescription: 24-Pin Plastic Small Outline Package, 8.2 x 5.3 mm Body, 0.65 mm Pitch; Supplier 1: Digi-Key; Supplier Part Number 1: 296-3429-5-ND; Supplier 2: Farnell; Supplier Part Number 2: 1755317; Supplier 3: Newark; Supplier Part Number 3: 50R6896; Supplier 4: Newark; Supplier Part Number 4: 77C0036; Supplier 5: Mouser; Supplier Part Number 5: 595-TPS2074DB; Application: USB 4-port hub; LDO: TRUE; Mounting Technology: Surface Mount; Code_JEDEC: MO-150; ComponentLink1Description: Datasheet; ComponentLink1URL: http://www.ti.com/general/docs/lit/getliterature.tsp?genericPartNumber=TPS2074&fileType=pdf
footprint DB24_N (SOP, 24-Leads, Body 8.2x5.3mm, Pitch 0.65mm, IPC Medium Density)
footprint DB24_L (SOP, 24-Leads, Body 8.2x5.3mm, Pitch 0.65mm, IPC High Density)
footprint DB24_M (SOP, 24-Leads, Body 8.2x5.3mm, Pitch 0.65mm, IPC Low Density)
pins: 1 PG_DLY "Adjusts the PG time delay with a capacitor to ground. Adjust the pulse width to fit the application.", 2 ~{EN1} (in) "Active-low enable for OUT1", 3 AGND (power) "Analog ground", 4 PG (out) "Logic output, power good", 5 SP (power) "Self-power voltage input, connects to local power supply", 6 SP (power) "Self-power voltage input, connects to local power supply", 7 NC "No internal connection", 8 3.3V_OUT (power) "3.3-V internal voltage regulator output", 9 ~{BPMODE} (in) "A logic signal that indicates if the outputs source from the bus-powered supply, B\P\M\O\DE\ (TPS2074) or BPMODE (TPS2075), can be used to signal the hub controller.", 10 DP0_RST (hiz) "Connects to DP signal from upstream hub/host through an external 1.5-k ohm resistor", 11 ~{EN2} (in) "Active-low enable for OUT2", 12 DGND (power) "Digital ground", 13 ~{EN3} (in) "Active-low enable for OUT3", 14 ~{EN4} (in) "Active-low enable for OUT4", 15 ~{OC1} (out) "Logic output, overcurrent response for OUT1", 16 ~{OC2} (out) "Logic output, overcurrent response for OUT2", 17 ~{OC3} (out) "Logic output, overcurrent response for OUT3", 18 ~{OC4} (out) "Logic output, overcurrent response for OUT4", 19 OUT4 (power) "Power switch output for downstream ports", 20 OUT3 (power) "Power switch output for downstream ports", 21 OUT2 (power) "Power switch output for downstream ports", 22 OUT1 (power) "Power switch output for downstream ports", 23 BP (power) "Bus power voltage input, connect to VBUS", 24 BP_DIS (in) "Active-high logic input, disables autoswitch to bus power when self power is disconnected. Connect to BP or GND"

## TPS2074DBG4
designator U?
Power Controller for Bus / Self Powered USB Hub with 3.3 V LDO, 8 Pwr Switches, Act-Low BPMode Indicator, 4 Ports, 8 FETs, 100 mA LDO Output Current, -40 to 85 degC, 24-pin SSOP (DB), Green (RoHS & no Sb/Br); Manufacturer: Texas Instruments; PartNumber: TPS2074DBG4; Hub: TRUE; LDO Output Current(mA): 100; LDO Output Range(V): 3.3; Number of FETs: 8; Ports(Max): 4; rDS(on) per FET, Bus Power(Typ)(mOhms): 500; SubFamily: USB Power Controller; Switch Current Limit, Bus Power(Min)(A): 0.12; Switch Enable: L; Vin(Max)(V): 5.5; Vin(Min)(V): 4.5; DatasheetVersion: SLVS288A; PackageVersion: revE, Dec-2001; PackageReference: DB24; PackageDescription: 24-Pin Plastic Small Outline Package, 8.2 x 5.3 mm Body, 0.65 mm Pitch; Supplier 1: Digi-Key; Supplier Part Number 1: TPS2074DBG4-ND; Supplier 2: Newark; Supplier Part Number 2: 73K9586; Supplier 3: Mouser; Supplier Part Number 3: 595-TPS2074DBG4; Application: USB 4-port hub; LDO: TRUE; Mounting Technology: Surface Mount; Code_JEDEC: MO-150; ComponentLink1Description: Datasheet; ComponentLink1URL: http://www.ti.com/general/docs/lit/getliterature.tsp?genericPartNumber=TPS2074&fileType=pdf
footprint DB24_N (SOP, 24-Leads, Body 8.2x5.3mm, Pitch 0.65mm, IPC Medium Density)
footprint DB24_L (SOP, 24-Leads, Body 8.2x5.3mm, Pitch 0.65mm, IPC High Density)
footprint DB24_M (SOP, 24-Leads, Body 8.2x5.3mm, Pitch 0.65mm, IPC Low Density)
pins: 1 PG_DLY "Adjusts the PG time delay with a capacitor to ground. Adjust the pulse width to fit the application.", 2 ~{EN1} (in) "Active-low enable for OUT1", 3 AGND (power) "Analog ground", 4 PG (out) "Logic output, power good", 5 SP (power) "Self-power voltage input, connects to local power supply", 6 SP (power) "Self-power voltage input, connects to local power supply", 7 NC "No internal connection", 8 3.3V_OUT (power) "3.3-V internal voltage regulator output", 9 ~{BPMODE} (in) "A logic signal that indicates if the outputs source from the bus-powered supply, B\P\M\O\DE\ (TPS2074) or BPMODE (TPS2075), can be used to signal the hub controller.", 10 DP0_RST (hiz) "Connects to DP signal from upstream hub/host through an external 1.5-k ohm resistor", 11 ~{EN2} (in) "Active-low enable for OUT2", 12 DGND (power) "Digital ground", 13 ~{EN3} (in) "Active-low enable for OUT3", 14 ~{EN4} (in) "Active-low enable for OUT4", 15 ~{OC1} (out) "Logic output, overcurrent response for OUT1", 16 ~{OC2} (out) "Logic output, overcurrent response for OUT2", 17 ~{OC3} (out) "Logic output, overcurrent response for OUT3", 18 ~{OC4} (out) "Logic output, overcurrent response for OUT4", 19 OUT4 (power) "Power switch output for downstream ports", 20 OUT3 (power) "Power switch output for downstream ports", 21 OUT2 (power) "Power switch output for downstream ports", 22 OUT1 (power) "Power switch output for downstream ports", 23 BP (power) "Bus power voltage input, connect to VBUS", 24 BP_DIS (in) "Active-high logic input, disables autoswitch to bus power when self power is disconnected. Connect to BP or GND"

## TPS2075DB
designator U?
Power Controller for Bus / Self Powered USB Hub with 3.3 V LDO, 8 Pwr Switches, Act-High BPMode Indicator, 4 Ports, 8 FETs, 100 mA LDO Output Current, -40 to 85 degC, 24-pin SSOP (DB), Green (RoHS & no Sb/Br); Manufacturer: Texas Instruments; PartNumber: TPS2075DB; Hub: TRUE; LDO Output Current(mA): 100; LDO Output Range(V): 3.3; Number of FETs: 8; Ports(Max): 4; rDS(on) per FET, Bus Power(Typ)(mOhms): 500; SubFamily: USB Power Controller; Switch Current Limit, Bus Power(Min)(A): 0.12; Switch Enable: L; Vin(Max)(V): 5.5; Vin(Min)(V): 4.5; DatasheetVersion: SLVS288A; PackageVersion: revE, Dec-2001; PackageReference: DB24; PackageDescription: 24-Pin Plastic Small Outline Package, 8.2 x 5.3 mm Body, 0.65 mm Pitch; Supplier 1: Digi-Key; Supplier Part Number 1: 296-3430-5-ND; Supplier 2: Newark; Supplier Part Number 2: 77C0038; Supplier 3: Mouser; Supplier Part Number 3: 595-TPS2075DB; Application: USB 4-port hub; LDO: TRUE; Mounting Technology: Surface Mount; Code_JEDEC: MO-150; ComponentLink1Description: Datasheet; ComponentLink1URL: http://www.ti.com/general/docs/lit/getliterature.tsp?genericPartNumber=TPS2075&fileType=pdf
footprint DB24_N (SOP, 24-Leads, Body 8.2x5.3mm, Pitch 0.65mm, IPC Medium Density)
footprint DB24_L (SOP, 24-Leads, Body 8.2x5.3mm, Pitch 0.65mm, IPC High Density)
footprint DB24_M (SOP, 24-Leads, Body 8.2x5.3mm, Pitch 0.65mm, IPC Low Density)
pins: 1 PG_DLY "Adjusts the PG time delay with a capacitor to ground. Adjust the pulse width to fit the application", 2 ~{EN1} (in) "Active-low enable for OUT1", 3 AGND (power) "Analog ground", 4 PG (out) "Logic output, power good", 5 SP (power) "Self-power voltage input, connects to local power supply", 6 SP (power) "Self-power voltage input, connects to local power supply", 7 NC "No internal connection", 8 3.3V_OUT (power) "3.3-V internal voltage regulator output", 9 BPMODE (out) "A logic signal that indicates if the outputs source from the bus-powered supply, B\P\M\O\D\E\ (TPS2074) or BPMODE (TPS2075), can be used to signal the hub controller", 10 DP0_RST (hiz) "Connects to DP signal from upstream hub/host through an external 1.5-k ohm resistor", 11 ~{EN2} (in) "Active-low enable for OUT2", 12 DGND (power) "Digital ground", 13 ~{EN3} (in) "Active-low enable for OUT3", 14 ~{EN4} (in) "Active-low enable for OUT4", 15 ~{OC1} (out) "Logic output, overcurrent response for OUT1", 16 ~{OC2} (out) "Logic output, overcurrent response for OUT2", 17 ~{OC3} (out) "Logic output, overcurrent response for OUT3", 18 ~{OC4} (out) "Logic output, overcurrent response for OUT4", 19 OUT4 (power) "Power switch output for downstream ports", 20 OUT3 (power) "Power switch output for downstream ports", 21 OUT2 (power) "Power switch output for downstream ports", 22 OUT1 (power) "Power switch output for downstream ports", 23 BP (power) "Bus power voltage input, connect to VBUS", 24 BP_DIS (in) "Active-high logic input, disables autoswitch to bus power when self power is disconnected. Connect to BP or GND"

## TPS2075DBG4
designator U?
Power Controller for Bus / Self Powered USB Hub with 3.3 V LDO, 8 Pwr Switches, Act-High BPMode Indicator, 4 Ports, 8 FETs, 100 mA LDO Output Current, -40 to 85 degC, 24-pin SSOP (DB), Green (RoHS & no Sb/Br); Manufacturer: Texas Instruments; PartNumber: TPS2075DBG4; Hub: TRUE; LDO Output Current(mA): 100; LDO Output Range(V): 3.3; Number of FETs: 8; Ports(Max): 4; rDS(on) per FET, Bus Power(Typ)(mOhms): 500; SubFamily: USB Power Controller; Switch Current Limit, Bus Power(Min)(A): 0.12; Switch Enable: L; Vin(Max)(V): 5.5; Vin(Min)(V): 4.5; DatasheetVersion: SLVS288A; PackageVersion: revE, Dec-2001; PackageReference: DB24; PackageDescription: 24-Pin Plastic Small Outline Package, 8.2 x 5.3 mm Body, 0.65 mm Pitch; Supplier 1: Digi-Key; Supplier Part Number 1: TPS2075DBG4-ND; Supplier 2: Newark; Supplier Part Number 2: 66K4504; Supplier 3: Mouser; Supplier Part Number 3: 595-TPS2075DBG4; Application: USB 4-port hub; LDO: TRUE; Mounting Technology: Surface Mount; Code_JEDEC: MO-150; ComponentLink1Description: Datasheet; ComponentLink1URL: http://www.ti.com/general/docs/lit/getliterature.tsp?genericPartNumber=TPS2075&fileType=pdf
footprint DB24_N (SOP, 24-Leads, Body 8.2x5.3mm, Pitch 0.65mm, IPC Medium Density)
footprint DB24_L (SOP, 24-Leads, Body 8.2x5.3mm, Pitch 0.65mm, IPC High Density)
footprint DB24_M (SOP, 24-Leads, Body 8.2x5.3mm, Pitch 0.65mm, IPC Low Density)
pins: 1 PG_DLY "Adjusts the PG time delay with a capacitor to ground. Adjust the pulse width to fit the application", 2 ~{EN1} (in) "Active-low enable for OUT1", 3 AGND (power) "Analog ground", 4 PG (out) "Logic output, power good", 5 SP (power) "Self-power voltage input, connects to local power supply", 6 SP (power) "Self-power voltage input, connects to local power supply", 7 NC "No internal connection", 8 3.3V_OUT (power) "3.3-V internal voltage regulator output", 9 BPMODE (out) "A logic signal that indicates if the outputs source from the bus-powered supply, B\P\M\O\D\E\ (TPS2074) or BPMODE (TPS2075), can be used to signal the hub controller", 10 DP0_RST (hiz) "Connects to DP signal from upstream hub/host through an external 1.5-k ohm resistor", 11 ~{EN2} (in) "Active-low enable for OUT2", 12 DGND (power) "Digital ground", 13 ~{EN3} (in) "Active-low enable for OUT3", 14 ~{EN4} (in) "Active-low enable for OUT4", 15 ~{OC1} (out) "Logic output, overcurrent response for OUT1", 16 ~{OC2} (out) "Logic output, overcurrent response for OUT2", 17 ~{OC3} (out) "Logic output, overcurrent response for OUT3", 18 ~{OC4} (out) "Logic output, overcurrent response for OUT4", 19 OUT4 (power) "Power switch output for downstream ports", 20 OUT3 (power) "Power switch output for downstream ports", 21 OUT2 (power) "Power switch output for downstream ports", 22 OUT1 (power) "Power switch output for downstream ports", 23 BP (power) "Bus power voltage input, connect to VBUS", 24 BP_DIS (in) "Active-high logic input, disables autoswitch to bus power when self power is disconnected. Connect to BP or GND"

## TPS2075DBR
designator U?
Power Controller for Bus / Self Powered USB Hub with 3.3 V LDO, 8 Pwr Switches, Act-High BPMode Indicator, 4 Ports, 8 FETs, 100 mA LDO Output Current, -40 to 85 degC, 24-pin SSOP (DB), Green (RoHS & no Sb/Br); Manufacturer: Texas Instruments; PartNumber: TPS2075DBR; Hub: TRUE; LDO Output Current(mA): 100; LDO Output Range(V): 3.3; Number of FETs: 8; Ports(Max): 4; rDS(on) per FET, Bus Power(Typ)(mOhms): 500; SubFamily: USB Power Controller; Switch Current Limit, Bus Power(Min)(A): 0.12; Switch Enable: L; Vin(Max)(V): 5.5; Vin(Min)(V): 4.5; DatasheetVersion: SLVS288A; PackageVersion: revE, Dec-2001; PackageReference: DB24; PackageDescription: 24-Pin Plastic Small Outline Package, 8.2 x 5.3 mm Body, 0.65 mm Pitch; Supplier 1: Digi-Key; Supplier Part Number 1: TPS2075DBR-ND; Supplier 2: Newark; Supplier Part Number 2: 77C0039; Supplier 3: Mouser; Supplier Part Number 3: 595-TPS2075DBR; Application: USB 4-port hub; LDO: TRUE; Mounting Technology: Surface Mount; Code_JEDEC: MO-150; ComponentLink1Description: Datasheet; ComponentLink1URL: http://www.ti.com/general/docs/lit/getliterature.tsp?genericPartNumber=TPS2075&fileType=pdf
footprint DB24_N (SOP, 24-Leads, Body 8.2x5.3mm, Pitch 0.65mm, IPC Medium Density)
footprint DB24_L (SOP, 24-Leads, Body 8.2x5.3mm, Pitch 0.65mm, IPC High Density)
footprint DB24_M (SOP, 24-Leads, Body 8.2x5.3mm, Pitch 0.65mm, IPC Low Density)
pins: 1 PG_DLY "Adjusts the PG time delay with a capacitor to ground. Adjust the pulse width to fit the application", 2 ~{EN1} (in) "Active-low enable for OUT1", 3 AGND (power) "Analog ground", 4 PG (out) "Logic output, power good", 5 SP (power) "Self-power voltage input, connects to local power supply", 6 SP (power) "Self-power voltage input, connects to local power supply", 7 NC "No internal connection", 8 3.3V_OUT (power) "3.3-V internal voltage regulator output", 9 BPMODE (out) "A logic signal that indicates if the outputs source from the bus-powered supply, B\P\M\O\D\E\ (TPS2074) or BPMODE (TPS2075), can be used to signal the hub controller", 10 DP0_RST (hiz) "Connects to DP signal from upstream hub/host through an external 1.5-k ohm resistor", 11 ~{EN2} (in) "Active-low enable for OUT2", 12 DGND (power) "Digital ground", 13 ~{EN3} (in) "Active-low enable for OUT3", 14 ~{EN4} (in) "Active-low enable for OUT4", 15 ~{OC1} (out) "Logic output, overcurrent response for OUT1", 16 ~{OC2} (out) "Logic output, overcurrent response for OUT2", 17 ~{OC3} (out) "Logic output, overcurrent response for OUT3", 18 ~{OC4} (out) "Logic output, overcurrent response for OUT4", 19 OUT4 (power) "Power switch output for downstream ports", 20 OUT3 (power) "Power switch output for downstream ports", 21 OUT2 (power) "Power switch output for downstream ports", 22 OUT1 (power) "Power switch output for downstream ports", 23 BP (power) "Bus power voltage input, connect to VBUS", 24 BP_DIS (in) "Active-high logic input, disables autoswitch to bus power when self power is disconnected. Connect to BP or GND"

## TPS2075DBRG4
designator U?
Power Controller for Bus / Self Powered USB Hub with 3.3 V LDO, 8 Pwr Switches, Act-High BPMode Indicator, 4 Ports, 8 FETs, 100 mA LDO Output Current, -40 to 85 degC, 24-pin SSOP (DB), Green (RoHS & no Sb/Br); Manufacturer: Texas Instruments; PartNumber: TPS2075DBRG4; Hub: TRUE; LDO Output Current(mA): 100; LDO Output Range(V): 3.3; Number of FETs: 8; Ports(Max): 4; rDS(on) per FET, Bus Power(Typ)(mOhms): 500; SubFamily: USB Power Controller; Switch Current Limit, Bus Power(Min)(A): 0.12; Switch Enable: L; Vin(Max)(V): 5.5; Vin(Min)(V): 4.5; DatasheetVersion: SLVS288A; PackageVersion: revE, Dec-2001; PackageReference: DB24; PackageDescription: 24-Pin Plastic Small Outline Package, 8.2 x 5.3 mm Body, 0.65 mm Pitch; Supplier 1: Digi-Key; Supplier Part Number 1: TPS2075DBRG4-ND; Supplier 2: Newark; Supplier Part Number 2: 67K8615; Supplier 3: Mouser; Supplier Part Number 3: 595-TPS2075DBRG4; Application: USB 4-port hub; LDO: TRUE; Mounting Technology: Surface Mount; Code_JEDEC: MO-150; ComponentLink1Description: Datasheet; ComponentLink1URL: http://www.ti.com/general/docs/lit/getliterature.tsp?genericPartNumber=TPS2075&fileType=pdf
footprint DB24_N (SOP, 24-Leads, Body 8.2x5.3mm, Pitch 0.65mm, IPC Medium Density)
footprint DB24_L (SOP, 24-Leads, Body 8.2x5.3mm, Pitch 0.65mm, IPC High Density)
footprint DB24_M (SOP, 24-Leads, Body 8.2x5.3mm, Pitch 0.65mm, IPC Low Density)
pins: 1 PG_DLY "Adjusts the PG time delay with a capacitor to ground. Adjust the pulse width to fit the application", 2 ~{EN1} (in) "Active-low enable for OUT1", 3 AGND (power) "Analog ground", 4 PG (out) "Logic output, power good", 5 SP (power) "Self-power voltage input, connects to local power supply", 6 SP (power) "Self-power voltage input, connects to local power supply", 7 NC "No internal connection", 8 3.3V_OUT (power) "3.3-V internal voltage regulator output", 9 BPMODE (out) "A logic signal that indicates if the outputs source from the bus-powered supply, B\P\M\O\D\E\ (TPS2074) or BPMODE (TPS2075), can be used to signal the hub controller", 10 DP0_RST (hiz) "Connects to DP signal from upstream hub/host through an external 1.5-k ohm resistor", 11 ~{EN2} (in) "Active-low enable for OUT2", 12 DGND (power) "Digital ground", 13 ~{EN3} (in) "Active-low enable for OUT3", 14 ~{EN4} (in) "Active-low enable for OUT4", 15 ~{OC1} (out) "Logic output, overcurrent response for OUT1", 16 ~{OC2} (out) "Logic output, overcurrent response for OUT2", 17 ~{OC3} (out) "Logic output, overcurrent response for OUT3", 18 ~{OC4} (out) "Logic output, overcurrent response for OUT4", 19 OUT4 (power) "Power switch output for downstream ports", 20 OUT3 (power) "Power switch output for downstream ports", 21 OUT2 (power) "Power switch output for downstream ports", 22 OUT1 (power) "Power switch output for downstream ports", 23 BP (power) "Bus power voltage input, connect to VBUS", 24 BP_DIS (in) "Active-high logic input, disables autoswitch to bus power when self power is disconnected. Connect to BP or GND"